# Altium schematic symbol library LM2775DSGT.SchLib: 1 symbol
Pins are listed as number, name and electrical type; pins without a type are passive.

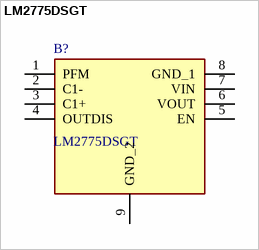
[diagram p0: symbol LM2775DSGT]

## LM2775DSGT
designator B?
Charge Pump Switching Regulator IC Positive Fixed 5V 1 Output 200mA 8-WFDFN Exposed Pad; Manufacturer_Name: Texas Instruments; Geometry.Height: 0.8mm; Mouser Part Number: 595-LM2775DSGT; Mouser Price/Stock: https://www.mouser.co.uk/ProductDetail/Texas-Instruments/LM2775DSGT?qs=GURawfaeGuC8OeiXDzqVsg%3D%3D; Manufacturer_Part_Number: LM2775DSGT; Datasheet Link: http://www.ti.com/lit/ds/symlink/lm2775.pdf
footprint SON50P200X200X80-9N
pins: 1 PFM, 2 C1-, 3 C1+, 4 OUTDIS, 5 EN, 6 VOUT, 7 VIN, 8 GND_1, 9 GND_2